# Altium schematic symbol library n21-p2.SchLib: 84 symbols (part 2 of 2)
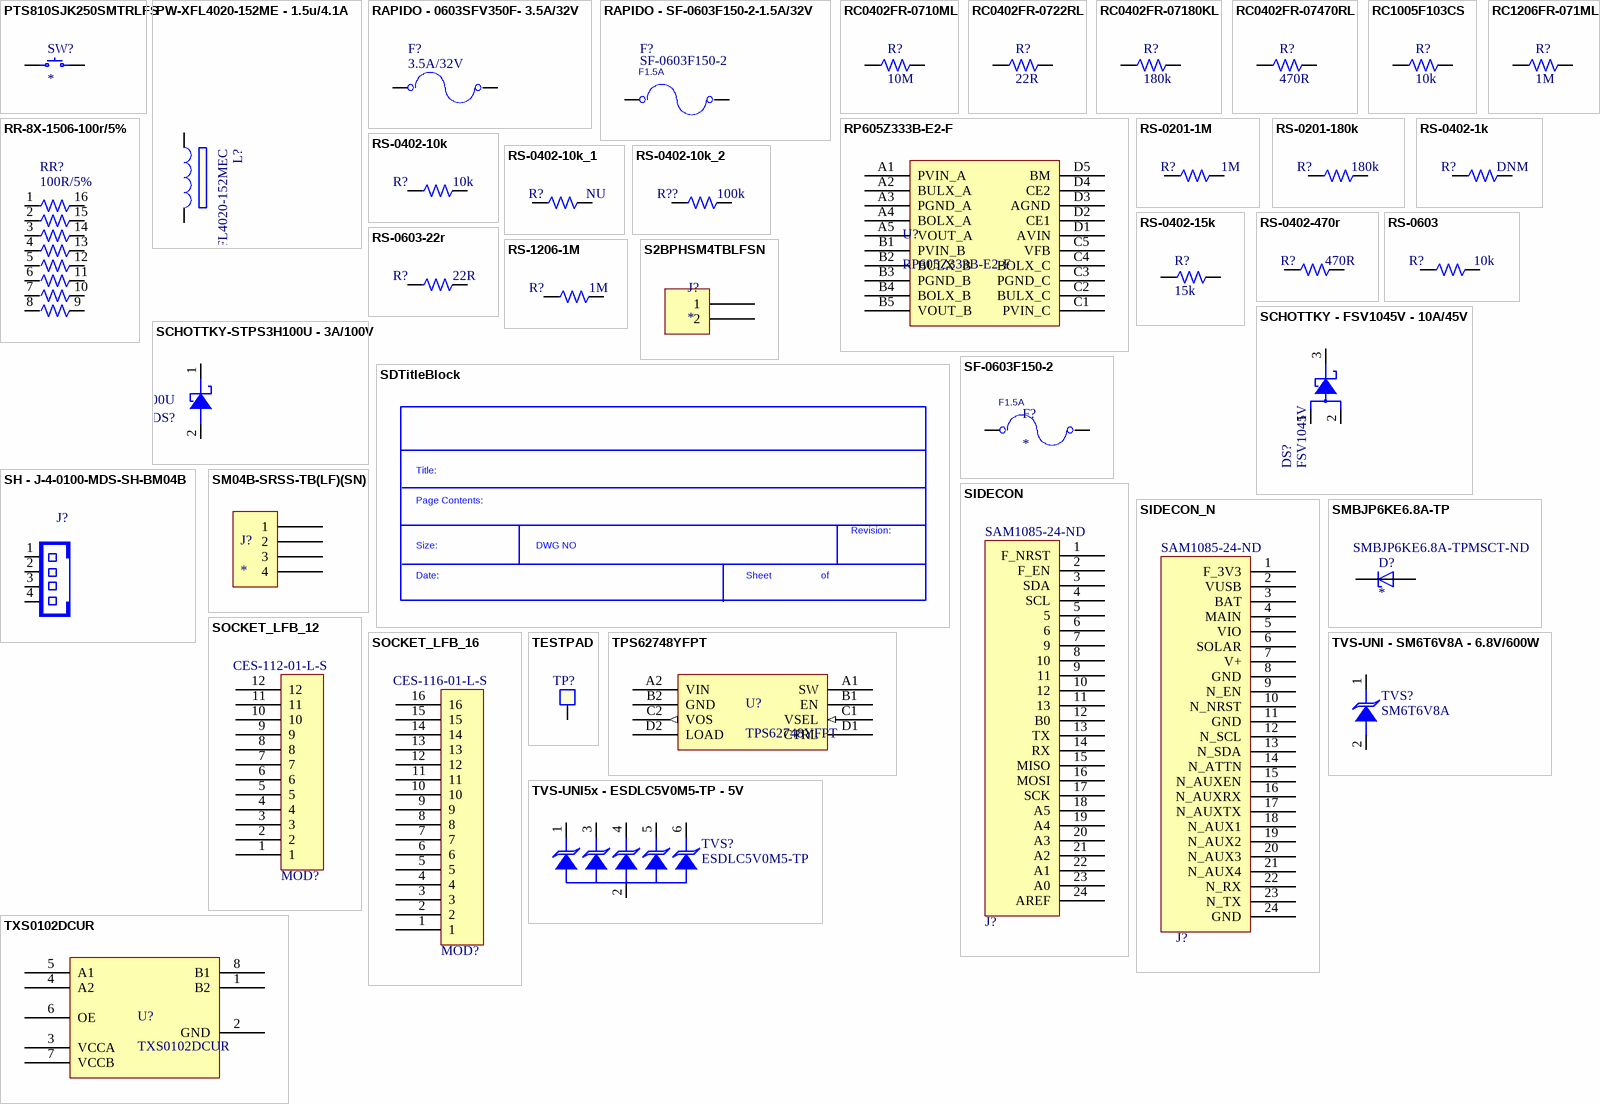
[diagram p3: symbols PTS810SJK250SMTRLFS to TXS0102DCUR]

## SDTitleBlock
designator *?  (value not drawn)  (graphical)
text: Title:; Page Contents:; Revision:; Size:; DWG NO; Date:; Sheet; of

## SF-0603F150-2
designator F?
FUSE BOARD MOUNT 1.5A 32VDC 0603 / SF-0603F Series - Fast Acting Surface Mount Fuses; Manufacturer: Bourns; Manufacturer Part Number: SF-0603F150-2; Body Material: Ceramic; Voltage Rating (DC): 32V; Resistance: 45mR; Fuse Type: Board Mount (Cartridge Style Excluded); Fuse Size: 1.6 X 0.8 X 0.45mm; Approvals: UL; Supplier 1: Digi-Key; RoHS: Yes; Category: Fuses; Stock 1: 4640; Pricing 1: 1=0.80000, 5=0.78000, 10=0.75600, 50=0.63600, 100=0.52800, 250=0.48000, 500=0.40800, 1000=0.36000 (USD); Mount: Surface Mount; Case/Package: 0603; Number of Pins: 2; Case Code (Metric): 1608; Case Code (Imperial): 0603; Contact Plating: Tin; Terminal Material: Copper; Min Operating Temperature: -40°C; Max Operating Temperature: 105°C; Current Rating: 1.5A; Package Quantity: 1; Packaging: Tape and Reel; Voltage Rating: 32V; Max Voltage Rating (DC): 32V; DC Cold Resistance: 45mR; Fuse Current: 1.5A; Series: SinglFuse™ SF-0603F; Length: 1.6mm; Width: 0.8mm; Height: 0.45mm; Depth: 0.8mm; Radiation Hardening: No; REACH SVHC: No SVHC; RoHS Compliant: Yes; ComponentLink1URL: https://datasheet.ciiva.com/301/sf0603f-301566.pdf?src-supplier=Digi-Key; ComponentLink1Description: https://datasheet.ciiva.com/301/sf0603f-301566.pdf?src-supplier=Digi-Key; ComponentLink2URL: https://datasheet.ciiva.com/301/sf0603f-301567.pdf?src-supplier=Digi-Key; ComponentLink2Description: https://datasheet.ciiva.com/301/sf0603f-301567.pdf?src-supplier=Digi-Key; ComponentLink3URL: https://datasheet.ciiva.com/301/sf0603f-301568.pdf?src-supplier=Digi-Key; ComponentLink3Description: https://datasheet.ciiva.com/301/sf0603f-301568.pdf?src-supplier=Digi-Key; ComponentLink4URL: https://datasheet.ciiva.com/3018/sf0603f-3018168.pdf?src-supplier=Avnet; ComponentLink4Description: https://datasheet.ciiva.com/3018/sf0603f-3018168.pdf?src-supplier=Avnet; ComponentLink5URL: https://datasheet.ciiva.com/3018/sf0603f-3018169.pdf?src-supplier=Avnet; ComponentLink5Description: https://datasheet.ciiva.com/3018/sf0603f-3018169.pdf?src-supplier=Avnet; ComponentLink6URL: https://datasheet.ciiva.com/5813/1727893-5813669.pdf?src-supplier=Farnell; ComponentLink6Description: https://datasheet.ciiva.com/5813/1727893-5813669.pdf?src-supplier=Farnell; ComponentLink7URL: https://datasheet.ciiva.com/30242/2542sf0603f-30242859.pdf?src-supplier=Onlinecomponents.com; ComponentLink7Description: https://datasheet.ciiva.com/30242/2542sf0603f-30242859.pdf?src-supplier=Onlinecomponents.com; ComponentLink8URL: https://datasheet.ciiva.com/16213/sf0603f-16213274.pdf?src-supplier=Onlinecomponents.com; ComponentLink8Description: https://datasheet.ciiva.com/16213/sf0603f-16213274.pdf?src-supplier=Onlinecomponents.com; ComponentLink9URL: https://datasheet.ciiva.com/17416/sf0603f-17416421.pdf?src-supplier=Avnet+Europe; ComponentLink9Description: https://datasheet.ciiva.com/17416/sf0603f-17416421.pdf?src-supplier=Avnet+Europe; ComponentLink10URL: https://datasheet.ciiva.com/32431/sf-0603f-series-eng-tds-32431246.pdf?src-supplier=Distrelec; ComponentLink10Description: https://datasheet.ciiva.com/32431/sf-0603f-series-eng-tds-32431246.pdf?src-supplier=Distrelec; ComponentLink11URL: https://datasheet.ciiva.com/7650/1727893-7650727.pdf?src-supplier=Element14; ComponentLink11Description: https://datasheet.ciiva.com/7650/1727893-7650727.pdf?src-supplier=Element14; ComponentLink12URL: https://datasheet.ciiva.com/7650/1727893-7650728.pdf?src-supplier=Element14; ComponentLink12Description: https://datasheet.ciiva.com/7650/1727893-7650728.pdf?src-supplier=Element14; Supplier Part Number 1: SF-0603F150-2CT-ND
footprint FS-0603
pins: 1, 2
text: F1.5A

## SH - J-4-0100-MDS-SH-BM04B
designator J?
CONN. SH 4P M/D P=1 BM04B-SRSS-TBT(LF)(SN) JST SMT; Temp Range: -25°..+85°; Pkg Type: SMD; Modello: PH; Famiglia: CONNETTORE; PCB Footprint: J-4-0100-MDS-SH; Price Distributor Cad: 0,69; MPN: BM04B-SRSS-TBT(LF)(SN); Distributor: D-455-2874-1-ND; Caratteristiche: 4P
footprint J-4-0100-MDS-SH
pins: 1, 2, 3, 4

## SIDECON
designator J?, comment Supplier Part Number 1: SAM1085-24-ND  (hidden comment: 24x1)  (no BOM)
24x1 0.1" pitch half height female header; PN: DNM; Supplier 1: Digi-Key
footprint CES-124-01-S-S (24x1 0.1" female headers)
pins: 1 F_NRST, 2 F_EN, 3 SDA, 4 SCL, 5, 6, 7 9, 8 10, 9 11, 10 12, 11 13, 12 B0, 13 TX, 14 RX, 15 MISO, 16 MOSI, 17 SCK, 18 A5, 19 A4, 20 A3, 21 A2, 22 A1, 23 A0, 24 AREF
2 alternate drawings of the same symbol

## SIDECON_N
designator J?, comment Supplier Part Number 1: SAM1085-24-ND  (hidden comment: 24X1)  (no BOM)
24x1 0.1" pitch half height female header; PN: DNM; Supplier 1: Digi-Key
footprint CES-124-01-S-S (24x1 0.1" female headers)
pins: 1 F_3V3, 2 VUSB, 3 BAT, 4 MAIN, 5 VIO, 6 SOLAR, 7 V+, 8 GND, 9 N_EN, 10 N_NRST, 11 GND, 12 N_SCL, 13 N_SDA, 14 N_ATTN, 15 N_AUXEN, 16 N_AUXRX, 17 N_AUXTX, 18 N_AUX1, 19 N_AUX2, 20 N_AUX3, 21 N_AUX4, 22 N_RX, 23 N_TX, 24 GND
2 alternate drawings of the same symbol

## SM04B-SRSS-TB(LF)(SN)
designator J?
CONN HEADER SH 4POS SIDE 1MM TIN; Manufacturer: JST; Manufacturer Part Number: SM04B-SRSS-TB(LF)(SN); Number of Positions: 4; Connector Type: Male Pin; Contact Resistance: 40mR; Max Current Rating: 1A; Max Voltage Rating (AC): 50V; Pitch: 0.039inch; Supplier 1: Digi-Key; RoHS: Yes; Category: Connectors; Pricing 1: 1=0.57000, 10=0.49300, 100=0.40630, 500=0.35328, 1000=0.29146 (USD); Mount: Surface Mount; Contact Material: Copper Alloy; Contact Plating: Tin,Copper; Color: Natural; Housing Color: Beige; Housing Material: Polyamide; Min Operating Temperature: -25°C; Max Operating Temperature: 85°C; Number of Rows: 1; Termination: Solder; Packaging: Tape and Reel; Orientation: Right Angle; Number of Contacts: 4; Max Voltage Rating (DC): 50V; Length: 6mm; Depth: 4.95mm; Lead Free: Lead Free; ComponentLink1URL: https://datasheet.ciiva.com/26894/getdatasheetpartid-640736-26894676.pdf?src-supplier=Verical; ComponentLink1Description: https://datasheet.ciiva.com/26894/getdatasheetpartid-640736-26894676.pdf?src-supplier=Verical; ComponentLink2URL: https://datasheet.ciiva.com/26894/getdatasheetpartid-499363-26894945.pdf?src-supplier=Verical; ComponentLink2Description: https://datasheet.ciiva.com/26894/getdatasheetpartid-499363-26894945.pdf?src-supplier=Verical; ComponentLink3URL: https://datasheet.ciiva.com/16487/jstsm04b-srss-tb-lf-sn-16487222.pdf?src-supplier=Future+Electronics; ComponentLink3Description: https://datasheet.ciiva.com/16487/jstsm04b-srss-tb-lf-sn-16487222.pdf?src-supplier=Future+Electronics; Supplier Part Number 1: 455-1804-1-ND
footprint JST SM04B-SRSS-TB (1.0mm pitch/Disconnectable Crimp style connector)
pins: 1, 2, 3, 4

## SMBJP6KE6.8A-TP
designator D?  Supplier Part Number 1: SMBJP6KE6.8A-TPMSCT-ND
SMBJ Series 600 W 6.8 V Uni-Directional Surface Mount TVS Diode - SMB; MP: SMBJP6KE6.8A-TP; MF: {'manufacturer': u'Micro Commercial'}; Price: None; Value: *; Package: None; Availability: Unavailable; Supplier 1: Digi-Key
footprint DIOM5336X244N
pins: A, C

## SOCKET_LFB_12
designator MOD?, comment Supplier Part Number 1: CES-112-01-L-S  (hidden comment: Socket 12-Pin, 0.100 inch (0.335 inch body))
Socket 12-Pin, 0.100 in; Supplier 1: Arrow Electronics
footprint 12PIN_254MM
pins: 1 "Pin 1", 2 "Pin 2", 3 "Pin 3", 4 "Pin 4", 5 "Pin 5", 6 "Pin 6", 7 "Pin 7", 8 "Pin 8", 9 "Pin 9", 10 "Pin 10", 11 "Pin 1", 12 "Pin 2"

## SOCKET_LFB_16
designator MOD?, comment Supplier Part Number 1: CES-116-01-L-S  (hidden comment: Socket 16-Pin, 0.100 inch (0.335 inch body))
Socket 16-Pin, 0.100 in; Supplier 1: Avnet
footprint 16PIN_254MM
pins: 1 "Pin 1", 2 "Pin 2", 3 "Pin 3", 4 "Pin 4", 5 "Pin 5", 6 "Pin 6", 7 "Pin 7", 8 "Pin 8", 9 "Pin 9", 10 "Pin 10", 11 "Pin 1", 12 "Pin 2", 13 "Pin 3", 14 "Pin 4", 15 "Pin 5", 16 "Pin 6"

## TESTPAD
designator TP?  (value not drawn)  (no BOM)
TESTPOINT; Pkg Type: SMD; PCB Footprint: FIDUCIAL; Distributor: FAE
footprint TESTPAD_127
pins: 1 TP

## TPS62748YFPT
designator U?
Conv DC-DC 2.15V to 5.5V Step Down Single-Out 1.2V/1.8V 0.3A 8-Pin DSBGA T/R; Manufacturer: Texas Instruments; Number of Outputs: 1; Min Output Voltage: 1.8V; Output Current: 300mA; Switching Frequency: 1.2MHz; Synchronous Rectifier: Yes; Efficiency: 90%; Quiescent Current: 360nA; Output Voltage: 1.2V; Output Configuration: Positive; Supplier 1: TI store; Manufacturer Part Number: TPS62748YFPT; RoHS: Yes; Category: Power Supply Modules; Pricing 1: 1=1.24500, 100=1.02900, 250=0.73900, 1000=0.55600 (USD); Mount: Surface Mount; Number of Pins: 8; Min Operating Temperature: -40°C; Max Operating Temperature: 125°C; Packaging: Cut Tape; Min Input Voltage: 2.15V; Max Input Voltage: 5.5V; Max Output Voltage: 1.8V; Max Output Current: 300mA; Operating Supply Voltage: 5.5V; REACH SVHC: No SVHC; Lead Free: Lead Free; RoHS Compliant: Yes; ComponentLink1URL: http://www.ti.com/general/docs/lit/getliterature.tsp?genericPartNumber=TPS62748&&fileType=pdf&src-supplier=Element14; ComponentLink1Description: http://www.ti.com/general/docs/lit/getliterature.tsp?genericPartNumber=TPS62748&&fileType=pdf&src-supplier=Element14; ComponentLink2URL: http://www.ti.com/general/docs/lit/getliterature.tsp?genericPartNumber=TPS62748&&fileType=pdf&src-supplier=Farnell; ComponentLink2Description: http://www.ti.com/general/docs/lit/getliterature.tsp?genericPartNumber=TPS62748&&fileType=pdf&src-supplier=Farnell; ComponentLink3URL: http://www.ti.com/lit/ds/symlink/tps62748.pdf?src-supplier=Digi-Key; ComponentLink3Description: http://www.ti.com/lit/ds/symlink/tps62748.pdf?src-supplier=Digi-Key; ComponentLink4URL: http://www.ti.com/general/docs/suppproductinfo.tsp?distId=10&amp;gotoUrl=http%3A%2F%2Fwww.ti.com%2Flit%2Fgpn%2Ftps62748&src-supplier=Digi-Key; ComponentLink4Description: http://www.ti.com/general/docs/suppproductinfo.tsp?distId=10&amp;gotoUrl=http%3A%2F%2Fwww.ti.com%2Flit%2Fgpn%2Ftps62748&src-supplier=Digi-Key; ComponentLink5URL: http://www.ti.com/general/docs/lit/getliterature.tsp?genericPartNumber=TPS62748&&fileType=pdf&src-supplier=Avnet; ComponentLink5Description: http://www.ti.com/general/docs/lit/getliterature.tsp?genericPartNumber=TPS62748&&fileType=pdf&src-supplier=Avnet; Supplier Part Number 1: TPS62748YFPT
footprint TPS62748YFPT-DSBGA4x2
pins: A1 SW, A2 VIN, B1 EN, B2 GND, C1 VSEL (in), C2 VOS (out), D1 CTRL, D2 LOAD

## TVS-UNI5x - ESDLC5V0M5-TP - 5V
designator TVS?, comment ESDLC5V0M5-TP
DIODO TVS TRANSIL UNIDIR. 20W 5V ESDLC5V0M5-TP SOT563 SMT; Temp Range: -65°..+150°; Pkg Type: SMD; Note: Cmax=10pF - SIM; Famiglia: PROTEZIONE; Database: 44643; Caratteristiche: 1.6A/5V/20W; PCB Footprint: SOT666; Price Distributor Cad: 0,37; Modello: TVS; Distributor: FAE
footprint SOT666
pins: 1 C1, 2 A2, 3 C3, 4 C4, 5 A5, 6 C6

## TVS-UNI - SM6T6V8A - 6.8V/600W
designator TVS?, comment SM6T6V8A
DIODO TVS TRANSIL UNIDIR. 600W 6.8V SM6T6V8A SMB SMT; Pkg Type: SMD; Database: 14165; Note: Unidirezionale; Caratteristiche: 57A/6.8V/600W; Famiglia: PROTEZIONE; ROOM: INPUT; Distributor: FAE; Price Distributor Cad: 0,0348; Modello: TVS; PCB Footprint: SMB
footprint SMB (DO-214-AA/SMB; 2 C-Bend Leads; Body 5.3 x 3.6 mm, inc. leads (LxW))
pins: 1 C, 2 A

## TXS0102DCUR
designator U?
2-Bit Bidirectional Voltage-Level Shifter for Open-Drain and Push-Pull Application 8-VSSOP -40 to 85; Manufacturer: Texas Instruments; Min Supply Voltage: 1.65V; Max Supply Voltage: 5.5V; Data Rate: 24Mbps; Propagation Delay: 4.6ns; Logic Function: Translator; Number of Bits: 2; High Level Output Current: -20uA; Low Level Output Current: 1mA; Quiescent Current: 14.4uA; Turn-On Delay Time: 260ns; Output Current: 1A; Supplier 1: Digi-Key; Manufacturer Part Number: TXS0102DCUR; RoHS: Yes; Category: Voltage Level Shifters; Pricing 1: 1=0.80000, 10=0.70000, 25=0.65720, 100=0.53640, 250=0.49820, 500=0.42400, 1000=0.35000 (USD); Case/Package: VSSOP; Number of Pins: 8; Weight: 0.000339oz; Min Operating Temperature: -40°C; Max Operating Temperature: 85°C; Packaging: Tape and Reel; Package Quantity: 1; Number of Channels: 2; Number of Inputs: 2; Nominal Supply Current: 14.4uA; Output Type: Voltage; Radiation Hardening: No; Lead Free: Lead Free; RoHS Compliant: Yes; REACH SVHC: No SVHC; ComponentLink1URL: https://datasheet.ciiva.com/22653/1846850-22653373.pdf?src-supplier=Farnell; ComponentLink1Description: https://datasheet.ciiva.com/22653/1846850-22653373.pdf?src-supplier=Farnell; ComponentLink2URL: https://datasheet.ciiva.com/15096/getdatasheetpartid-118249-15096172.pdf?src-supplier=Verical; ComponentLink2Description: https://datasheet.ciiva.com/15096/getdatasheetpartid-118249-15096172.pdf?src-supplier=Verical; ComponentLink3URL: https://datasheet.ciiva.com/1508/1857232-1508821.pdf?src-supplier=Element14; ComponentLink3Description: https://datasheet.ciiva.com/1508/1857232-1508821.pdf?src-supplier=Element14; ComponentLink4URL: https://datasheet.ciiva.com/28499/1863639-28499676.pdf?src-supplier=Element14; ComponentLink4Description: https://datasheet.ciiva.com/28499/1863639-28499676.pdf?src-supplier=Element14; ComponentLink5URL: https://datasheet.ciiva.com/46395/1863639-46395871.pdf?src-supplier=Element14; ComponentLink5Description: https://datasheet.ciiva.com/46395/1863639-46395871.pdf?src-supplier=Element14; ComponentLink6URL: https://datasheet.ciiva.com/1899/txs0102-1899369.pdf?src-supplier=Digi-Key; ComponentLink6Description: https://datasheet.ciiva.com/1899/txs0102-1899369.pdf?src-supplier=Digi-Key; ComponentLink7URL: https://datasheet.ciiva.com/1899/txs0102-1899368.pdf?src-supplier=Digi-Key; ComponentLink7Description: https://datasheet.ciiva.com/1899/txs0102-1899368.pdf?src-supplier=Digi-Key; ComponentLink8URL: https://datasheet.ciiva.com/1899/txs0102-1899370.pdf?src-supplier=Digi-Key; ComponentLink8Description: https://datasheet.ciiva.com/1899/txs0102-1899370.pdf?src-supplier=Digi-Key; ComponentLink9URL: https://datasheet.ciiva.com/14287/txs0102-14287516.pdf?src-supplier=Avnet; ComponentLink9Description: https://datasheet.ciiva.com/14287/txs0102-14287516.pdf?src-supplier=Avnet; ComponentLink10URL: https://datasheet.ciiva.com/14287/txs0102-14287518.pdf?src-supplier=Avnet; ComponentLink10Description: https://datasheet.ciiva.com/14287/txs0102-14287518.pdf?src-supplier=Avnet; Supplier Part Number 1: 296-21931-6-ND
footprint SOP50P310X90-8N
pins: 1 B2, 2 GND, 3 VCCA, 4 A2, 5 A1, 6 OE, 7 VCCB, 8 B1

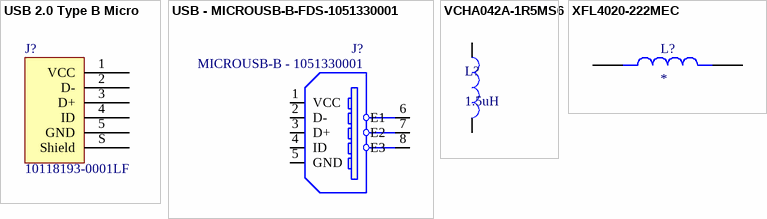
[diagram p2: symbols USB 2.0 Type B Micro to XFL4020-222MEC]

## USB 2.0 Type B Micro
designator J?, comment 10118193-0001LF
CONN RCPT USB2.0 MICRO B SMD R/A; Manufacturer 1: Amphenol ICC (FCI); Connector Type: USB - micro B; Current Rating (Amps): 1.8A per Contact; Gender: Receptacle; Mating Cycles: 10000; Number of Contacts: 5; Number of Ports: 1; Shielding: Shielded; Voltage - Rated: 100VAC; Manufacturer Part Number 1: 10118193-0001LF; ComponentLink1Description: Datasheet; ComponentLink1URL: https://cdn.amphenol-icc.com/media/wysiwyg/files/documentation/datasheet/inputoutput/io_usb_micro.pdf; ComponentLink2Description: DigiKey Link; ComponentLink2URL: //digikey.com/product-detail/en/amphenol-icc-fci/10118193-0001LF/609-4616-2-ND/2785388; Features: Solder Retention; LastUpdated: 12/9/2019 8:51:28 PM; Lifecycle Status: 0; Minimum Order: 1; Mounting Feature: Horizontal; Mounting Type: Surface Mount, Right Angle; Through Hole; Operating Temperature: -30°C ~ 80°C; Packaging: TapeAndReel; Part Status: Active; Price: 0.21; Series: -; Specifications: USB 2.0; Supplier 1: DigiKey; Supplier Part Number 1: 609-4616-2-ND; Termination: Solder
footprint FCI USB 10118193-0001LF (USB 2.0 Type B Micro)
pins: 1 VCC, 2 D-, 3 D+, 4 ID, 5 GND, S Shield

## USB - MICROUSB-B-FDS-1051330001
designator J?, comment MICROUSB-B - 1051330001
CONN. USB F/D TIPO MICRO-B C.S. 1051330001 MOLEX SMT; Database: 40807; Famiglia: CONNETTORE; Note: Verticale - 1.8A/30V; Pkg Type: SMD; Temp Range: -30°..+85°; PCB Footprint: J-5-0065-FDS-UUSB1051330001; Distributor: FAE; Modello: MICROUSB; Price Distributor Cad: 0,333; MPN: 1051330001
footprint J-5-0065-FDS-UUSB1051330001
pins: 1 VCC (power), 2 D- (io), 3 D+ (io), 4 ID, 5 GND (power), 6 E1, 7 E2, 8 E3

## VCHA042A-1R5MS6
designator L?, comment 1.5uH
Fixed Ind 1.5UH 7.3A 15.4 Mohm; Manufacturer: Cyntec; Manufacturer Part Number: VCHA042A-1R5MS6; Supplier 1: Digi-Key; RoHS: Yes; Category: Fixed Inductors; Stock 1: 1541; Pricing 1: 1=1.40000, 10=1.29600, 25=1.19640, 50=0.99680, 100=0.93710, 250=0.83736, 500=0.71776, 1000=0.63800 (USD); Supplier Part Number 1: 2037-VCHA042A-1R5MS6CT-ND
footprint VCHA042A-1R5MS6 (1.5uH Precision Wire Wound Inductor, 2-Leads, Body 4.20x4.00mm, IPC Medium Density)
pins: 1 C, 2 A

## XFL4020-222MEC
designator L?
Power inductor, shielded, 20% tol, SMT, RoHS, halogen free; Manufacturer Part Number 1: XFL4020-222MEC; Manufacturer 1: Coilcraft; MF: {'manufacturer': u'Coilcraft'}; Value: *; Package: None; Price: None; Availability: Unavailable
footprint IND_XFL4020-222MEC
pins: 1, 2